# Altium footprint library IDC.PcbLib: 13 footprints
Each footprint in its own frame and in the unit in brackets; x right, y up, seen from the top. Pads: shape width x height; smd on the part's side, far side on the other; paste and mask are expansions set on the pad; w line width, h text height; cw(c..) or ccw(c..) is an arc to the next point about the centre after c.
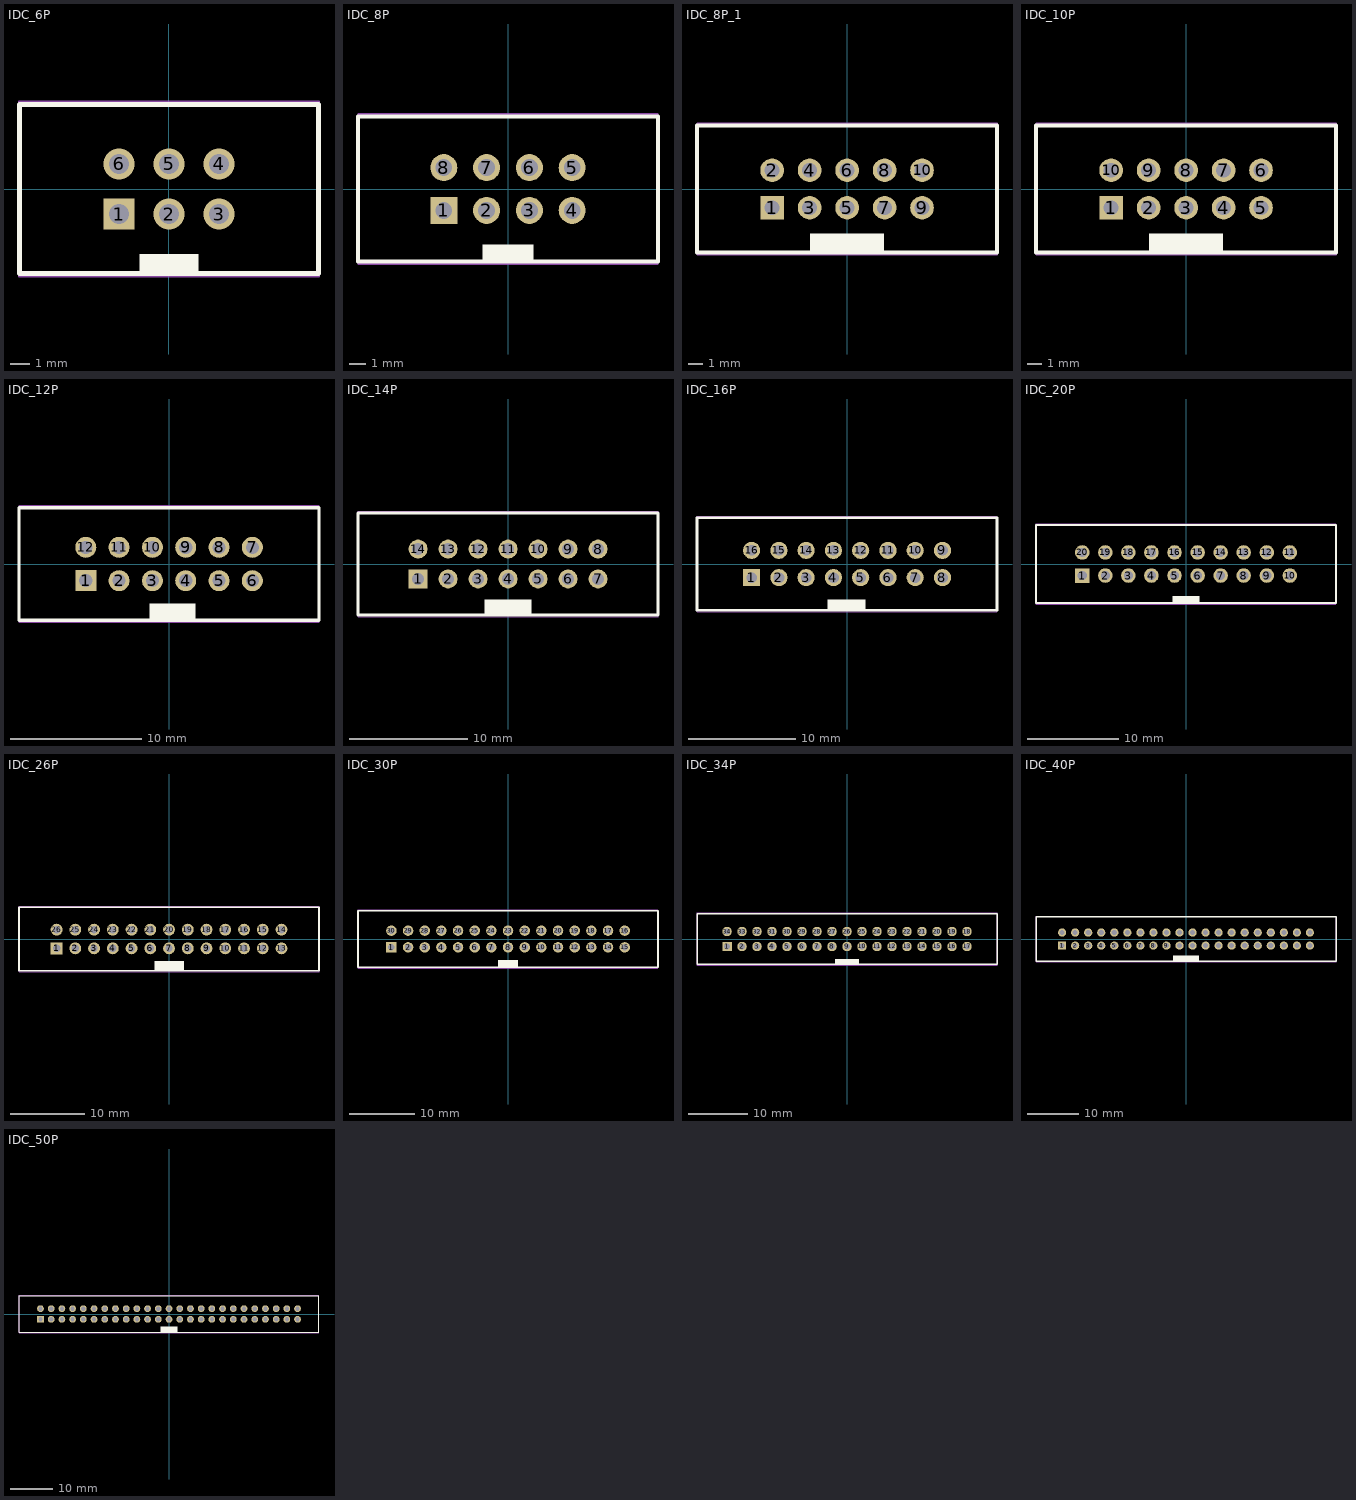
[diagram p0: the footprints below, top view; thin cyan lines are the x and y axes]

## IDC_6P [mm]
pads (6):
  rect 1.6x1.6 hole 1: 1(-2.54,-1.27)
  round 1.6 hole 1: 2(0,-1.27) 3(2.54,-1.27) 4(2.54,1.27) 5(0,1.27) 6(-2.54,1.27)
Top Overlay:
  rectangle: -1.5,-4.3 1.5,-3.3
  lines w0.254: -7.6,-4.3 7.6,-4.3 7.6,4.3 -7.6,4.3 -7.6,-4.3
Mechanical 15:
  lines w0.1: -7.62,-4.45 7.62,-4.45 7.62,4.45 -7.62,4.45 -7.62,-4.45
3D body "Header-DC3-2.54-6.STEP": height 8.93, standoff -3.17, extent -7.62,-4.45 7.62,4.45

## IDC_8P [mm]
pads (8):
  rect 1.6x1.6 hole 1: 1(-3.81,-1.27)
  round 1.6 hole 1: 2(-1.27,-1.27) 3(1.27,-1.27) 4(3.81,-1.27) 5(3.81,1.27) 6(1.27,1.27) 7(-1.27,1.27) 8(-3.81,1.27)
Top Overlay:
  rectangle: -1.5,-4.3 1.5,-3.3
  lines w0.254: -8.9,-4.3 -8.9,4.3 8.9,4.3 8.9,-4.3 -8.9,-4.3
Mechanical 15:
  lines w0.1: -8.89,-4.45 -8.89,4.45 8.89,4.45 8.89,-4.45 -8.89,-4.45
3D body "Header-DC3-2.54-8.step": height 8.98, standoff -3.17, extent -8.89,-4.45 8.89,4.75

## IDC_8P_1 [mm]
pads (10):
  rect 1.6x1.6 hole 1: 1(-5.08,-1.27)
  round 1.6 hole 1: 2(-5.08,1.27) 3(-2.54,-1.27) 4(-2.54,1.27) 5(0,-1.27) 6(0,1.27) 7(2.54,-1.27) 8(2.54,1.27) 9(5.08,-1.27) 10(5.08,1.27)
Top Overlay:
  rectangle: -2.5,-4.3 2.5,-3
  lines w0.254: -10.17,-4.3 10.16,-4.3 10.16,4.3 -10.17,4.3 -10.17,-4.3
Mechanical 15:
  lines w0.1: -10.16,-4.45 -10.16,4.45 10.16,4.45 10.16,-4.45 -10.16,-4.45
3D body "Header-DC3-2.54-10.STEP": height 9.1, standoff -3, extent -10.26,-4.58 10.24,4.72

## IDC_10P [mm]
pads (10):
  rect 1.6x1.6 hole 1: 1(-5.08,-1.27)
  round 1.6 hole 1: 2(-2.54,-1.27) 3(0,-1.27) 4(2.54,-1.27) 5(5.08,-1.27) 6(5.08,1.27) 7(2.54,1.27) 8(0,1.27) 9(-2.54,1.27) 10(-5.08,1.27)
Top Overlay:
  rectangle: -2.5,-4.3 2.5,-3
  lines w0.254: -10.17,-4.3 -10.17,4.3 10.16,4.3 10.16,-4.3 -10.17,-4.3
Mechanical 15:
  lines w0.1: -10.16,-4.45 10.16,-4.45 10.16,4.45 -10.16,4.45 -10.16,-4.45
3D body "Header-DC3-2.54-10.STEP": height 9.1, standoff -3, extent -10.26,-4.58 10.24,4.72

## IDC_12P [mm]
pads (12):
  rect 1.6x1.6 hole 1: 1(-6.35,-1.27)
  round 1.6 hole 1: 2(-3.81,-1.27) 3(-1.27,-1.27) 4(1.27,-1.27) 5(3.81,-1.27) 6(6.35,-1.27) 7(6.35,1.27) 8(3.81,1.27) 9(1.27,1.27) 10(-1.27,1.27) 11(-3.81,1.27) 12(-6.35,1.27)
Top Overlay:
  rectangle: -1.5,-4.3 2,-3
  lines w0.254: -11.44,-4.3 11.43,-4.3 11.43,4.3 -11.44,4.3 -11.44,-4.3
Mechanical 15:
  lines w0.1: -11.43,-4.45 11.43,-4.45 11.43,4.45 -11.43,4.45 -11.43,-4.45
3D body "Header-DC3-2.54-12.STEP": height 9.1, standoff -3, extent -11.52,-4.6 11.52,4.7

## IDC_14P [mm]
pads (14):
  rect 1.6x1.6 hole 1: 1(-7.62,-1.27)
  round 1.6 hole 1: 2(-5.08,-1.27) 3(-2.54,-1.27) 4(0,-1.27) 5(2.54,-1.27) 6(5.08,-1.27) 7(7.62,-1.27) 8(7.62,1.27) 9(5.08,1.27) 10(2.54,1.27) 11(0,1.27) 12(-2.54,1.27) 13(-5.08,1.27) 14(-7.62,1.27)
Top Overlay:
  rectangle: -2,-4.3 2,-3
  lines w0.254: -12.71,-4.3 -12.71,4.3 12.7,4.3 12.7,-4.3 -12.71,-4.3
Mechanical 15:
  lines w0.1: -12.7,-4.45 -12.7,4.45 12.7,4.45 12.7,-4.45 -12.7,-4.45
3D body "Header-DC3-2.54-14.STEP": height 9.1, standoff -3, extent -12.8,-4.6 12.78,4.7

## IDC_16P [mm]
pads (16):
  rect 1.6x1.6 hole 1: 1(-8.89,-1.27)
  round 1.6 hole 1: 2(-6.35,-1.27) 3(-3.81,-1.27) 4(-1.27,-1.27) 5(1.27,-1.27) 6(3.81,-1.27) 7(6.35,-1.27) 8(8.89,-1.27) 9(8.89,1.27) 10(6.35,1.27) 11(3.81,1.27) 12(1.27,1.27) 13(-1.27,1.27) 14(-3.81,1.27) 15(-6.35,1.27) 16(-8.89,1.27)
Top Overlay:
  rectangle: -1.8,-4.33 1.7,-3.3
  lines w0.254: -13.98,-4.3 -13.98,4.3 13.97,4.3 13.97,-4.3 -13.98,-4.3
Mechanical 15:
  lines w0.1: -13.97,-4.45 -13.97,4.45 13.97,4.45 13.97,-4.45 -13.97,-4.45
3D body "Header-DC3-2.54-16.STEP": height 9.1, standoff -3, extent -14.05,-4.57 14.07,4.73

## IDC_20P [mm]
pads (20):
  rect 1.6x1.6 hole 1: 1(-11.43,-1.27)
  round 1.6 hole 1: 2(-8.89,-1.27) 3(-6.35,-1.27) 4(-3.81,-1.27) 5(-1.27,-1.27) 6(1.27,-1.27) 7(3.81,-1.27) 8(6.35,-1.27) 9(8.89,-1.27) 10(11.43,-1.27) 11(11.43,1.27) 12(8.89,1.27) 13(6.35,1.27) 14(3.81,1.27) 15(1.27,1.27) 16(-1.27,1.27) 17(-3.81,1.27) 18(-6.35,1.27) 19(-8.89,1.27) 20(-11.43,1.27)
Top Overlay:
  rectangle: -1.5,-4.3 1.5,-3.5
  lines w0.254: -16.52,-4.3 16.51,-4.3 16.51,4.3 -16.52,4.3 -16.52,-4.3
Mechanical 15:
  lines w0.1: -16.51,-4.45 16.51,-4.45 16.51,4.45 -16.51,4.45 -16.51,-4.45
3D body "Header-DC3-2.54-20.STEP": height 9.1, standoff -3, extent -16.6,-4.5 16.6,4.8

## IDC_26P [mm]
pads (26):
  rect 1.6x1.6 hole 1: 1(-15.24,-1.27)
  round 1.6 hole 1: 2(-12.7,-1.27) 3(-10.16,-1.27) 4(-7.62,-1.27) 5(-5.08,-1.27) 6(-2.54,-1.27) 7(0,-1.27) 8(2.54,-1.27) 9(5.08,-1.27) 10(7.62,-1.27) 11(10.16,-1.27) 12(12.7,-1.27) 13(15.24,-1.27) 14(15.24,1.27) 15(12.7,1.27) 16(10.16,1.27) 17(7.62,1.27) 18(5.08,1.27) 19(2.54,1.27) 20(0,1.27) 21(-2.54,1.27) 22(-5.08,1.27) 23(-7.62,1.27) 24(-10.16,1.27) 25(-12.7,1.27) 26(-15.24,1.27)
Top Overlay:
  rectangle: -2,-4.3 2,-3
  lines w0.254: -20.33,-4.3 20.32,-4.3 20.32,4.3 -20.33,4.3 -20.33,-4.3
Mechanical 15:
  lines w0.1: -20.32,-4.45 20.32,-4.45 20.32,4.45 -20.32,4.45 -20.32,-4.45
3D body "Header-DC3-2.54-26.STEP": height 9.1, standoff -3, extent -20.41,-4.5 20.41,4.8

## IDC_30P [mm]
pads (30):
  rect 1.6x1.6 hole 1: 1(-17.78,-1.27)
  round 1.6 hole 1: 2(-15.24,-1.27) 3(-12.7,-1.27) 4(-10.16,-1.27) 5(-7.62,-1.27) 6(-5.08,-1.27) 7(-2.54,-1.27) 8(0,-1.27) 9(2.54,-1.27) 10(5.08,-1.27) 11(7.62,-1.27) 12(10.16,-1.27) 13(12.7,-1.27) 14(15.24,-1.27) 15(17.78,-1.27) 16(17.78,1.27) 17(15.24,1.27) 18(12.7,1.27) 19(10.16,1.27) 20(7.62,1.27) 21(5.08,1.27) 22(2.54,1.27) 23(0,1.27) 24(-2.54,1.27) 25(-5.08,1.27) 26(-7.62,1.27) 27(-10.16,1.27) 28(-12.7,1.27) 29(-15.24,1.27) 30(-17.78,1.27)
Top Overlay:
  rectangle: -1.5,-4.3 1.5,-3.2
  lines w0.254: -22.87,-4.3 22.86,-4.3 22.86,4.3 -22.87,4.3 -22.87,-4.3
Mechanical 15:
  lines w0.1: -22.86,-4.45 22.86,-4.45 22.86,4.45 -22.86,4.45 -22.86,-4.45
3D body "Header-DC3-2.54-30.STEP": height 9.1, standoff -3, extent -22.9,-4.6 23,4.7

## IDC_34P [mm]
pads (34):
  rect 1.6x1.6 hole 1: 1(-20.32,-1.27)
  round 1.6 hole 1: 2(-17.78,-1.27) 3(-15.24,-1.27) 4(-12.7,-1.27) 5(-10.16,-1.27) 6(-7.62,-1.27) 7(-5.08,-1.27) 8(-2.54,-1.27) 9(0,-1.27) 10(2.54,-1.27) 11(5.08,-1.27) 12(7.62,-1.27) 13(10.16,-1.27) 14(12.7,-1.27) 15(15.24,-1.27) 16(17.78,-1.27) 17(20.32,-1.27) 18(20.32,1.27) 19(17.78,1.27) 20(15.24,1.27) 21(12.7,1.27) 22(10.16,1.27) 23(7.62,1.27) 24(5.08,1.27) 25(2.54,1.27) 26(0,1.27) 27(-2.54,1.27) 28(-5.08,1.27) 29(-7.62,1.27) 30(-10.16,1.27) 31(-12.7,1.27) 32(-15.24,1.27) 33(-17.78,1.27) 34(-20.32,1.27)
Top Overlay:
  rectangle: -2,-4.3 2,-3.4
  lines w0.254: -25.41,-4.3 -25.41,4.3 25.4,4.3 25.4,-4.3 -25.41,-4.3
Mechanical 15:
  lines w0.1: -25.4,-4.45 -25.4,4.45 25.4,4.45 25.4,-4.45 -25.4,-4.45
3D body "Header-DC3-2.54-34.STEP": height 9.1, standoff -3, extent -25.49,-4.5 25.49,4.8

## IDC_40P [mm]
pads (40):
  rect 1.6x1.6 hole 1: 1(-24.13,-1.27)
  round 1.6 hole 1: 2(-21.59,-1.27) 3(-19.05,-1.27) 4(-16.51,-1.27) 5(-13.97,-1.27) 6(-11.43,-1.27) 7(-8.89,-1.27) 8(-6.35,-1.27) 9(-3.81,-1.27) 10(-1.27,-1.27) 11(1.27,-1.27) 12(3.81,-1.27) 13(6.35,-1.27) 14(8.89,-1.27) 15(11.43,-1.27) 16(13.97,-1.27) 17(16.51,-1.27) 18(19.05,-1.27) 19(21.59,-1.27) 20(24.13,-1.27) 21(24.13,1.27) 22(21.59,1.27) 23(19.05,1.27) 24(16.51,1.27) 25(13.97,1.27) 26(11.43,1.27) 27(8.89,1.27) 28(6.35,1.27) 29(3.81,1.27) 30(1.27,1.27) 31(-1.27,1.27) 32(-3.81,1.27) 33(-6.35,1.27) 34(-8.89,1.27) 35(-11.43,1.27) 36(-13.97,1.27) 37(-16.51,1.27) 38(-19.05,1.27) 39(-21.59,1.27) 40(-24.13,1.27)
Top Overlay:
  rectangle: -2.5,-4.3 2.5,-3.2
  lines w0.254: -29.22,-4.3 29.21,-4.3 29.21,4.3 -29.22,4.3 -29.22,-4.3
Mechanical 15:
  lines w0.1: -29.21,-4.45 29.21,-4.45 29.21,4.475 -29.21,4.475 -29.21,-4.45
3D body "Header-DC3-2.54-40.STEP": height 9.5, standoff -2.6, extent -29.3,-4.6 29.3,4.7

## IDC_50P [mm]
pads (50):
  rect 1.6x1.6 hole 1: 1(-30.48,-1.27)
  round 1.6 hole 1: 2(-27.94,-1.27) 3(-25.4,-1.27) 4(-22.86,-1.27) 5(-20.32,-1.27) 6(-17.78,-1.27) 7(-15.24,-1.27) 8(-12.7,-1.27) 9(-10.16,-1.27) 10(-7.62,-1.27) 11(-5.08,-1.27) 12(-2.54,-1.27) 13(0,-1.27) 14(2.54,-1.27) 15(5.08,-1.27) 16(7.62,-1.27) 17(10.16,-1.27) 18(12.7,-1.27) 19(15.24,-1.27) 20(17.78,-1.27) 21(20.32,-1.27) 22(22.86,-1.27) 23(25.4,-1.27) 24(27.94,-1.27) 25(30.48,-1.27) 26(30.48,1.27) 27(27.94,1.27) 28(25.4,1.27) 29(22.86,1.27) 30(20.32,1.27) 31(17.78,1.27) 32(15.24,1.27) 33(12.7,1.27) 34(10.16,1.27) 35(7.62,1.27) 36(5.08,1.27) 37(2.54,1.27) 38(0,1.27) 39(-2.54,1.27) 40(-5.08,1.27) 41(-7.62,1.27) 42(-10.16,1.27) 43(-12.7,1.27) 44(-15.24,1.27) 45(-17.78,1.27) 46(-20.32,1.27) 47(-22.86,1.27) 48(-25.4,1.27) 49(-27.94,1.27) 50(-30.48,1.27)
Top Overlay:
  rectangle: -2,-4.3 2,-3
  lines w0.254: -35.57,-4.3 -35.57,4.3 35.56,4.3 35.56,-4.3 -35.57,-4.3
Mechanical 15:
  lines w0.1: -35.56,-4.45 -35.56,4.45 35.56,4.45 35.56,-4.45 -35.56,-4.45
3D body "Header-DC3-2.54-50.STEP": height 9.24, standoff -2.9, extent -35.56,-4.45 35.6,4.75